# EAGLE library part OSTTH070160 (library con-ost)
5mm Terminal Header
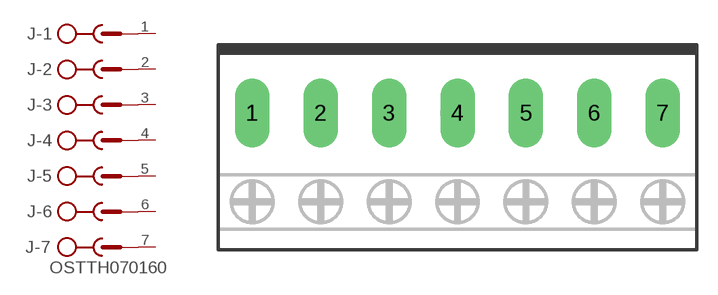
[diagram p12: symbol with the pads of EDSTL130-07; footprint EDSTL130-07]

Designator prefix J; gates -1=SK -2=SK -3=SK -4=SK -5=SK -6=SK -7=SKV

## OSTTH070160  [EDSTL130-07]
1  -1:SK  pas
2  -2:SK  pas
3  -3:SK  pas
4  -4:SK  pas
5  -5:SK  pas
6  -6:SK  pas
7  -7:SK  pas

## Footprint EDSTL130-07 (pad centres in mm)
5mm Pin Header for pluggable terminal blocks mating connector OSTTHXX0160
drill 1.676 long: 1 -15,0; 2 -10,0; 3 -5,0; 4 0,0; 5 5,0; 6 10,0; 7 15,0